# Altium footprint library NetTroll.PcbLib: 63 footprints (part 1 of 4)
Each footprint in its own frame and in the unit in brackets; x right, y up, seen from the top. Pads: shape width x height; smd on the part's side, far side on the other; paste and mask are expansions set on the pad; w line width, h text height; cw(c..) or ccw(c..) is an arc to the next point about the centre after c.
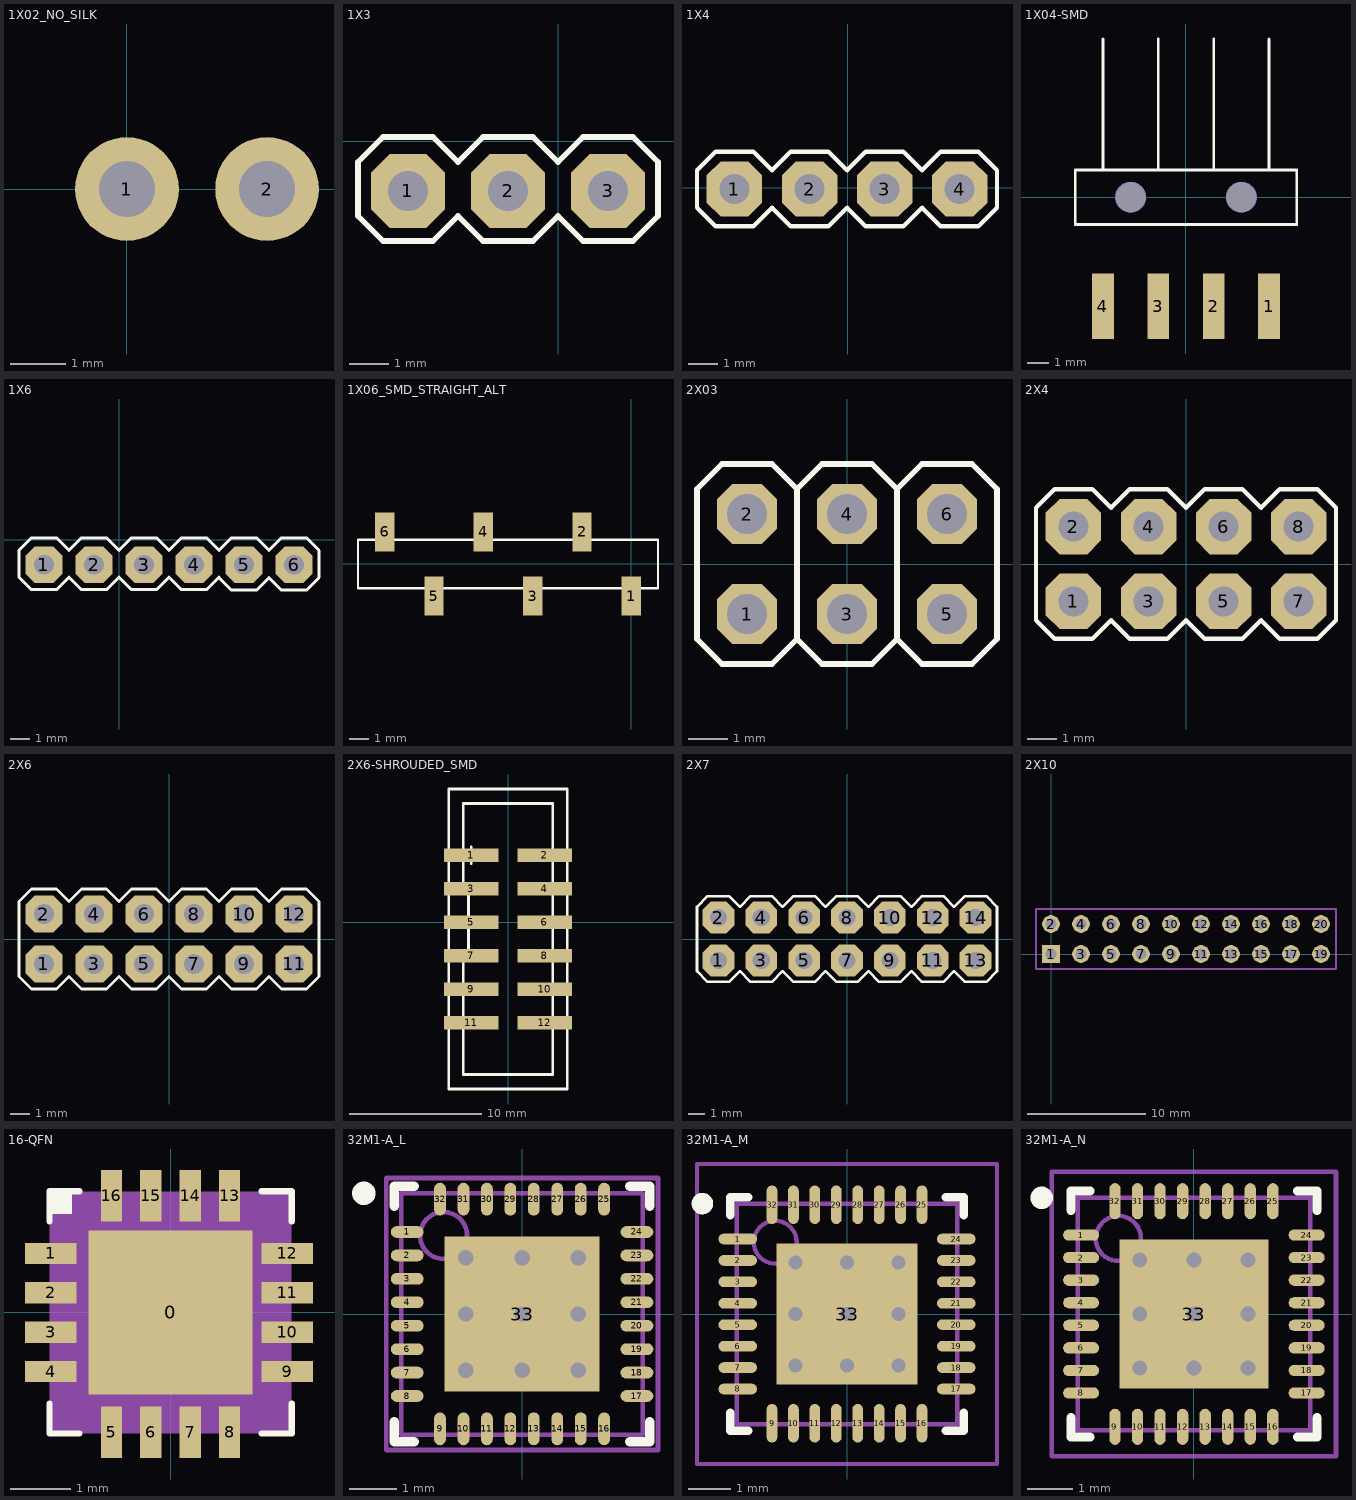
[diagram p0: the footprints below, top view; thin cyan lines are the x and y axes]

## 1X02_NO_SILK [mil]
pads (2):
  round 74 hole 40: 1(0,0) 2(100,0)
Top Overlay:
  rectangle: 90,-10 110,10
  rectangle: -10,-10 10,10
  region: -77,2

## 1X3 [mil]
pads (3):
  oct 74x74 hole 40: 1(-150,-50) 2(-50,-50) 3(50,-50)
Top Overlay:
  lines w6: -200,-75 -200,-21 -175,4 -125,4 -100,-21 -75,4 -25,4 0,-21 25,4 75,4 100,-21 100,-75 75,-100 25,-100 0,-75 -25,-100 -75,-100 -100,-75 -125,-100 -175,-100 -200,-75

## 1X4 [mil]
pads (4):
  oct 74x74 hole 40: 1(-151,-2) 2(-51,-2) 3(49,-2) 4(149,-2)
Top Overlay:
  lines w6: -201,-27 -201,23 -176,48 -126,48 -101,23 -76,48 -26,48 -1,23 24,48 74,48 99,23 124,48 174,48 199,23 199,-27 174,-52 124,-52 99,-27 74,-52 24,-52 -1,-27 -26,-52 -76,-52 -101,-27 -126,-52 -176,-52 -201,-27

## 1X04-SMD [mm]
pads (6):
  rect 1x3 smd: 1(3.81,-5) 2(1.27,-5) 3(-1.27,-5) 4(-3.81,-5)
  round 1.4 on Bottom hole 1.4 unplated: ""(-2.54,0) ""(2.54,0)
Top Overlay:
  lines w0.127: -3.81,7.25 -3.81,1.25 ; -1.27,7.25 -1.27,1.25 ; 1.27,7.25 1.27,1.25 ; 3.81,7.25 3.81,1.25 ; -3.81,1.25 -5.08,1.25 -5.08,-1.25 5.08,-1.25 5.08,1.25 3.81,1.25 ; -3.81,1.25 -1.27,1.25 ; -1.27,1.25 1.27,1.25 ; 1.27,1.25 3.81,1.25

## 1X6 [mil]
pads (6):
  oct 74x74 hole 40: 1(-150,-50) 2(-50,-50) 3(50,-50) 4(150,-50) 5(250,-50) 6(350,-50)
Top Overlay:
  lines w6: 200,-76 225,-101 275,-101 300,-76 325,-101 375,-101 400,-76 400,-21 375,4 325,4 300,-21 275,4 225,4 200,-21 175,4 125,4 100,-21 75,4 25,4 0,-21 -25,4 -75,4 -100,-21 -125,4 -175,4 -200,-21 -200,-75 -175,-100 -125,-100 -100,-75 -75,-100 -25,-100 0,-75 25,-100 75,-100 100,-75 125,-100 175,-100 200,-75

## 1X06_SMD_STRAIGHT_ALT [mm]
pads (6):
  rect 1x2 smd: 1(0,-1.65) 2(-2.54,1.65) 3(-5.08,-1.65) 4(-7.62,1.65) 5(-10.16,-1.65) 6(-12.7,1.65)
Top Overlay:
  lines w0.127: -13.55,1.25 -14.07,1.25 ; -11.997,1.25 -8.323,1.25 ; -10.883,-1.25 -14.07,-1.25 ; -9.371,-1.25 -5.869,-1.25 ; -6.917,1.25 -3.243,1.25 ; -4.291,-1.25 -0.789,-1.25 ; -1.817,1.25 1.37,1.25 ; 0.85,-1.25 1.37,-1.25 ; -14.07,-1.25 -14.07,1.25 ; -14.07,-1.25 1.37,-1.25 ; -14.07,-1.25 -14.07,1.25 ; -14.07,1.25 1.37,1.25 ; 1.37,-1.25 1.37,1.25 ; 1.37,-1.25 1.37,1.25

## 2X03 [mil]
pads (6):
  oct 60x60 hole 40: 1(-100,-50) 2(-100,50) 3(0,-50) 4(0,50) 5(100,-50) 6(100,50)
Top Overlay:
  rectangle: 90,-60 110,-40
  rectangle: 90,40 110,60
  rectangle: -10,-60 10,-40
  rectangle: -10,40 10,60
  rectangle: -110,40 -90,60
  rectangle: -110,-60 -90,-40
  lines w6: -50,-75 -50,75 ; -50,-75 -25,-100 25,-100 50,-75 ; -50,-75 -75,-100 -125,-100 -150,-75 -150,75 -125,100 -75,100 -50,75 ; -50,75 -25,100 25,100 50,75 ; 50,-75 75,-100 125,-100 150,-75 150,75 125,100 75,100 50,75 ; 50,-75 50,75

## 2X4 [mil]
pads (8):
  oct 74x74 hole 40: 1(-150,-50) 2(-150,50) 3(-50,-50) 4(-50,50) 5(50,-50) 6(50,50) 7(150,-50) 8(150,50)
Top Overlay:
  lines w6: -200,-75 -175,-100 -125,-100 -100,-75 -75,-100 -25,-100 0,-75 25,-100 75,-100 100,-75 125,-100 175,-100 200,-75 200,75 175,100 125,100 100,75 75,100 25,100 0,75 -25,100 -75,100 -100,75 -125,100 -175,100 -200,75 -200,-75

## 2X6 [mil]
pads (12):
  oct 74x74 hole 40: 1(-250,-50) 2(-250,50) 3(-150,-50) 4(-150,50) 5(-50,-50) 6(-50,50) 7(50,-50) 8(50,50) 9(150,-50) 10(150,50) 11(250,-50) 12(250,50)
Top Overlay:
  lines w6: -300,-75 -300,75 -275,100 -225,100 -200,75 -175,100 -125,100 -100,75 -75,100 -25,100 0,75 25,100 75,100 100,75 125,100 175,100 200,75 225,100 275,100 300,75 300,-75 275,-100 225,-100 200,-75 175,-100 125,-100 100,-75 75,-100 25,-100 0,-75 -25,-100 -75,-100 -100,-75 -125,-100 -175,-100 -200,-75 -225,-100 -275,-100 -300,-75

## 2X6-SHROUDED_SMD [mm]
pads (12):
  rect 4.15x1 smd: 1(-2.794,5.08) 2(2.794,5.08) 3(-2.794,2.54) 4(2.794,2.54) 5(-2.794,0) 6(2.794,0) 7(-2.794,-2.54) 8(2.794,-2.54) 9(-2.794,-5.08) 10(2.794,-5.08) 11(-2.794,-7.62) 12(2.794,-7.62)
Top Overlay:
  rectangle: -1.524,4.826 -1.016,5.334
  rectangle: 1.016,4.826 1.524,5.334
  rectangle: 1.016,2.286 1.524,2.794
  rectangle: -1.524,2.286 -1.016,2.794
  rectangle: 1.016,-0.254 1.524,0.254
  rectangle: -1.524,-0.254 -1.016,0.254
  rectangle: 1.016,-2.794 1.524,-2.286
  rectangle: -1.524,-2.794 -1.016,-2.286
  rectangle: 1.016,-5.334 1.524,-4.826
  rectangle: -1.524,-5.334 -1.016,-4.826
  rectangle: -1.524,-2.794 -1.016,-2.286
  rectangle: 1.016,-2.794 1.524,-2.286
  rectangle: 1.016,-7.874 1.524,-7.366
  rectangle: -1.524,-7.874 -1.016,-7.366
  lines w0.203: -3.4,-2.2 -3.4,-11.54 3.4,-11.54 3.4,9 -3.4,9 -3.4,2.2 ; -2.775,4.445 -2.775,5.715 ; 4.4,10.1 -4.5,10.1 -4.5,2.2 ; 4.5,10.1 4.5,-12.64 -4.5,-12.64 -4.5,-2.2 ; -4.5,-2.2 -4.5,2.2 ; -4.5,-2.2 -3,-2.2 -3,2.2 -4.5,2.2

## 2X7 [mil]
pads (14):
  oct 74x74 hole 40: 1(-300,-50) 2(-300,50) 3(-200,-50) 4(-200,50) 5(-100,-50) 6(-100,50) 7(0,-50) 8(0,50) 9(100,-50) 10(100,50) 11(200,-50) 12(200,50) 13(300,-50) 14(300,50)
Top Overlay:
  lines w6: -350,-75 -325,-100 -275,-100 -250,-75 -225,-100 -175,-100 -150,-75 -125,-100 -75,-100 -50,-75 -25,-100 25,-100 50,-75 75,-100 125,-100 150,-75 175,-100 225,-100 250,-75 275,-100 325,-100 350,-75 350,75 325,100 275,100 250,75 225,100 175,100 150,75 125,100 75,100 50,75 25,100 -25,100 -50,75 -75,100 -125,100 -150,75 -175,100 -225,100 -250,75 -275,100 -325,100 -350,75 -350,-75

## 2X10 [mm] "Connector; Header; 10x2 Position"
pads (20):
  rect 1.5x1.5 hole 0.9: 1(0,0)
  round 1.5 hole 0.9: 2(0,2.54) 3(2.54,0) 4(2.54,2.54) 5(5.08,0) 6(5.08,2.54) 7(7.62,0) 8(7.62,2.54) 9(10.16,0) 10(10.16,2.54) 11(12.7,0) 12(12.7,2.54) 13(15.24,0) 14(15.24,2.54) 15(17.78,0) 16(17.78,2.54) 17(20.32,0) 18(20.32,2.54) 19(22.86,0) 20(22.86,2.54)
Mechanical 13:
  lines w0.2: -1.27,-1.27 24.13,-1.27 24.13,3.81 -1.27,3.81 -1.27,-1.27

## 16-QFN [mm]
pads (17):
  rect 2.7x2.7 smd: 0(0,0)
  rect 0.85x0.35 smd: 1(-1.975,0.975) 2(-1.975,0.325) 3(-1.975,-0.325) 4(-1.975,-0.975) 9(1.925,-0.975) 10(1.925,-0.325) 11(1.925,0.325) 12(1.925,0.975)
  rect 0.35x0.85 smd: 5(-0.975,-1.975) 6(-0.325,-1.975) 7(0.325,-1.975) 8(0.975,-1.975) 13(0.975,1.925) 14(0.325,1.925) 15(-0.325,1.925) 16(-0.975,1.925)
Top Overlay:
  rectangle: -2,1.625 -1.625,2
  lines w0.1: -2,-1.5 -2,-2 -1.5,-2 ; -2,1.5 -2,2 -1.5,2 ; 1.5,-2 2,-2 2,-1.5 ; 1.5,2 2,2 2,1.5
Top Solder:
  rectangle: -2.5,-1.25 -1.275,1.25
  rectangle: -1.2,-2.5 1.075,-1.375
  rectangle: 1.225,-1.15 2.45,1.025
  rectangle: -1,1.325 1,2.45
Mechanical 3:
  rectangle: -2,-2 2,2

## 32M1-A_L [mm] "QFN, 32-Leads, Body 5x5mm, Pitch 0.5mm, IPC High Density"
height 1
pads (33):
  oval 0.7x0.25 smd: 1(-2.45,1.75) 2(-2.45,1.25) 3(-2.45,0.75) 4(-2.45,0.25) 5(-2.45,-0.25) 6(-2.45,-0.75) 7(-2.45,-1.25) 8(-2.45,-1.75) 17(2.45,-1.75) 18(2.45,-1.25) 19(2.45,-0.75) 20(2.45,-0.25) 21(2.45,0.25) 22(2.45,0.75) 23(2.45,1.25) 24(2.45,1.75)
  oval 0.25x0.7 smd: 9(-1.75,-2.45) 10(-1.25,-2.45) 11(-0.75,-2.45) 12(-0.25,-2.45) 13(0.25,-2.45) 14(0.75,-2.45) 15(1.25,-2.45) 16(1.75,-2.45) 25(1.75,2.45) 26(1.25,2.45) 27(0.75,2.45) 28(0.25,2.45) 29(-0.25,2.45) 30(-0.75,2.45) 31(-1.25,2.45) 32(-1.75,2.45)
  rect 3.3x3.3 smd: 33(0,0)
via 1.2,-1.2 diameter 0.66 hole 0.33
via 0,-1.2 diameter 0.66 hole 0.33
via -1.2,-1.2 diameter 0.66 hole 0.33
via 1.2,0 diameter 0.66 hole 0.33
via 0,0 diameter 0.66 hole 0.33
via -1.2,0 diameter 0.66 hole 0.33
via 1.2,1.2 diameter 0.66 hole 0.33
via 0,1.2 diameter 0.66 hole 0.33
via -1.2,1.2 diameter 0.66 hole 0.33
Top Overlay:
  circle w0.25: c-3.375,2.575 r0.125
  lines w0.2: -2.725,-2.3 -2.725,-2.725 -2.3,-2.725 ; -2.725,2.3 -2.725,2.725 -2.3,2.725 ; 2.3,-2.725 2.725,-2.725 2.725,-2.3 ; 2.3,2.725 2.725,2.725 2.725,2.3
Mechanical 13:
  circle w0.1: c-1.675,1.675 r0.5
  lines w0.1: -2.575,-2.575 2.575,-2.575 2.575,2.575 -2.575,2.575 -2.575,-2.575
Mechanical 15:
  lines w0.1: -0.5,0 0.5,0 ; 0,-0.5 0,0.5 ; -2.9,-2.9 2.9,-2.9 2.9,2.9 -2.9,2.9 -2.9,-2.9
3D body: height 1, standoff 0, extent -2.575,-2.575 2.575,2.575

## 32M1-A_M [mm] "QFN, 32-Leads, Body 5x5mm, Pitch 0.5mm, IPC Low Density"
height 1
pads (33):
  oval 0.9x0.25 smd: 1(-2.55,1.75) 2(-2.55,1.25) 3(-2.55,0.75) 4(-2.55,0.25) 5(-2.55,-0.25) 6(-2.55,-0.75) 7(-2.55,-1.25) 8(-2.55,-1.75) 17(2.55,-1.75) 18(2.55,-1.25) 19(2.55,-0.75) 20(2.55,-0.25) 21(2.55,0.25) 22(2.55,0.75) 23(2.55,1.25) 24(2.55,1.75)
  oval 0.25x0.9 smd: 9(-1.75,-2.55) 10(-1.25,-2.55) 11(-0.75,-2.55) 12(-0.25,-2.55) 13(0.25,-2.55) 14(0.75,-2.55) 15(1.25,-2.55) 16(1.75,-2.55) 25(1.75,2.55) 26(1.25,2.55) 27(0.75,2.55) 28(0.25,2.55) 29(-0.25,2.55) 30(-0.75,2.55) 31(-1.25,2.55) 32(-1.75,2.55)
  rect 3.3x3.3 smd: 33(0,0)
via 1.2,-1.2 diameter 0.66 hole 0.33
via 0,-1.2 diameter 0.66 hole 0.33
via -1.2,-1.2 diameter 0.66 hole 0.33
via 1.2,0 diameter 0.66 hole 0.33
via 0,0 diameter 0.66 hole 0.33
via -1.2,0 diameter 0.66 hole 0.33
via 1.2,1.2 diameter 0.66 hole 0.33
via 0,1.2 diameter 0.66 hole 0.33
via -1.2,1.2 diameter 0.66 hole 0.33
Top Overlay:
  circle w0.25: c-3.375,2.575 r0.125
  lines w0.2: -2.725,-2.3 -2.725,-2.725 -2.3,-2.725 ; -2.725,2.3 -2.725,2.725 -2.3,2.725 ; 2.3,-2.725 2.725,-2.725 2.725,-2.3 ; 2.3,2.725 2.725,2.725 2.725,2.3
Mechanical 13:
  circle w0.1: c-1.675,1.675 r0.5
  lines w0.1: -2.575,-2.575 2.575,-2.575 2.575,2.575 -2.575,2.575 -2.575,-2.575
Mechanical 15:
  lines w0.1: -0.5,0 0.5,0 ; 0,-0.5 0,0.5 ; -3.5,-3.5 3.5,-3.5 3.5,3.5 -3.5,3.5 -3.5,-3.5
3D body: height 1, standoff 0, extent -2.575,-2.575 2.575,2.575

## 32M1-A_N [mm] "QFN, 32-Leads, Body 5x5mm, Pitch 0.5mm, IPC Medium Density"
height 1
pads (33):
  oval 0.8x0.25 smd: 1(-2.5,1.75) 2(-2.5,1.25) 3(-2.5,0.75) 4(-2.5,0.25) 5(-2.5,-0.25) 6(-2.5,-0.75) 7(-2.5,-1.25) 8(-2.5,-1.75) 17(2.5,-1.75) 18(2.5,-1.25) 19(2.5,-0.75) 20(2.5,-0.25) 21(2.5,0.25) 22(2.5,0.75) 23(2.5,1.25) 24(2.5,1.75)
  oval 0.25x0.8 smd: 9(-1.75,-2.5) 10(-1.25,-2.5) 11(-0.75,-2.5) 12(-0.25,-2.5) 13(0.25,-2.5) 14(0.75,-2.5) 15(1.25,-2.5) 16(1.75,-2.5) 25(1.75,2.5) 26(1.25,2.5) 27(0.75,2.5) 28(0.25,2.5) 29(-0.25,2.5) 30(-0.75,2.5) 31(-1.25,2.5) 32(-1.75,2.5)
  rect 3.3x3.3 smd: 33(0,0)
via 1.2,-1.2 diameter 0.66 hole 0.33
via 0,-1.2 diameter 0.66 hole 0.33
via -1.2,-1.2 diameter 0.66 hole 0.33
via 1.2,0 diameter 0.66 hole 0.33
via 0,0 diameter 0.66 hole 0.33
via -1.2,0 diameter 0.66 hole 0.33
via 1.2,1.2 diameter 0.66 hole 0.33
via 0,1.2 diameter 0.66 hole 0.33
via -1.2,1.2 diameter 0.66 hole 0.33
Top Overlay:
  circle w0.25: c-3.375,2.575 r0.125
  lines w0.2: -2.725,-2.3 -2.725,-2.725 -2.3,-2.725 ; -2.725,2.3 -2.725,2.725 -2.3,2.725 ; 2.3,-2.725 2.725,-2.725 2.725,-2.3 ; 2.3,2.725 2.725,2.725 2.725,2.3
Mechanical 13:
  circle w0.1: c-1.675,1.675 r0.5
  lines w0.1: -2.575,-2.575 2.575,-2.575 2.575,2.575 -2.575,2.575 -2.575,-2.575
Mechanical 15:
  lines w0.1: -0.5,0 0.5,0 ; 0,-0.5 0,0.5 ; -3.15,-3.15 3.15,-3.15 3.15,3.15 -3.15,3.15 -3.15,-3.15
3D body: height 1, standoff 0, extent -2.575,-2.575 2.575,2.575